# EAGLE library part ESPRUINO_PICO_PIN (library espruino_pico)
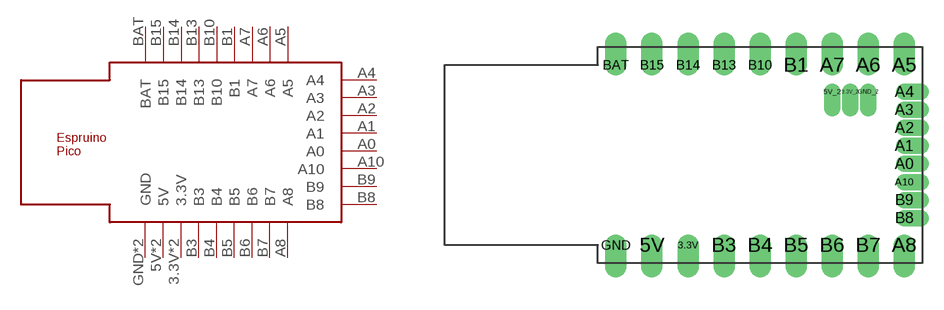
[diagram p0: symbol with the pads of ESPRUINO_PICO_PIN; footprint ESPRUINO_PICO_PIN]

Designator prefix -

## ESPRUINO_PICO_PIN  [ESPRUINO_PICO_PIN]
3.3V  3.3V
3.3V_2  3.3V
5V  5V
5V_2  5V
A0  A0
A1  A1
A2  A2
A3  A3
A4  A4
A5  A5
A6  A6
A7  A7
A8  A8
A10  A10
B1  B1
B3  B3
B4  B4
B5  B5
B6  B6
B7  B7
B8  B8
B9  B9
B10  B10
B13  B13
B14  B14
B15  B15
BAT  BAT
GND  GND
GND_2  GND

## Footprint ESPRUINO_PICO_PIN (pad centres in mm)
drill 1.016 offset: 3.3V -8.89,-6.35; 5V -11.43,-6.35; A5 6.35,6.35; A6 3.81,6.35; A7 1.27,6.35; A8 6.35,-6.35; B1 -1.27,6.35; B3 -6.35,-6.35; B4 -3.81,-6.35; B5 -1.27,-6.35; B6 1.27,-6.35; B7 3.81,-6.35; B10 -3.81,6.35; B13 -6.35,6.35; B14 -8.89,6.35; B15 -11.43,6.35; BAT -13.97,6.35; GND -13.97,-6.35
drill 0.65 pad 0.965 offset: 3.3V_2 2.54,4.445; 5V_2 1.27,4.445; A0 6.35,-0.635; A1 6.35,0.635; A2 6.35,1.905; A3 6.35,3.175; A4 6.35,4.445; A10 6.35,-1.905; B8 6.35,-4.445; B9 6.35,-3.175; GND_2 3.81,4.445